# EAGLE library part IS42S1* (library MDB_HOME_kap)
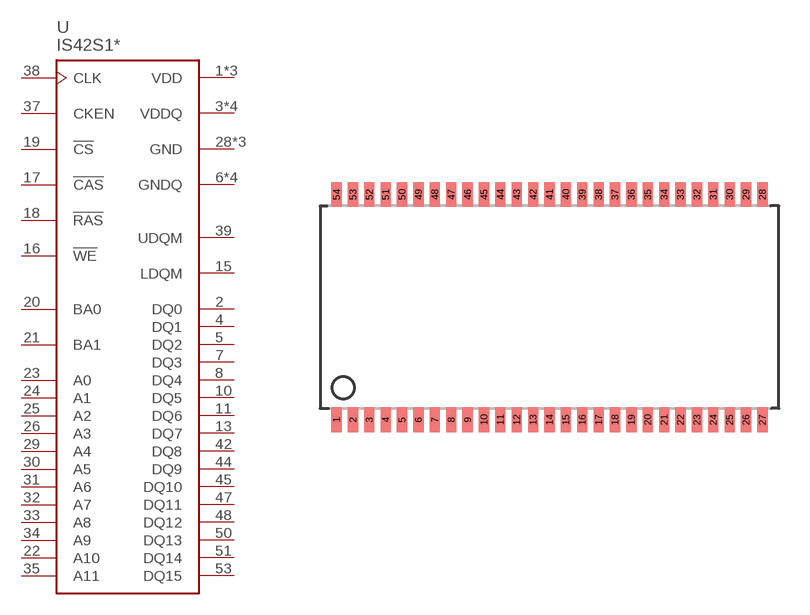
[diagram p26: symbol with the pads of TSOPII-54; footprint TSOPII-54]

Designator prefix U

## IS42S16400J  [TSOPII-54]
1  VDD  pwr
2  DQ0
3  VDDQ  pwr
4  DQ1
5  DQ2
6  GNDQ  pwr
7  DQ3
8  DQ4
9  VDDQ  pwr
10  DQ5
11  DQ6
12  GNDQ  pwr
13  DQ7
14  VDD  pwr
15  LDQM  in
16  !WE  in
17  !CAS  in
18  !RAS  in
19  !CS  in
20  BA0  in
21  BA1  in
22  A10
23  A0
24  A1
25  A2
26  A3
27  VDD  pwr
28  GND  pwr
29  A4
30  A5
31  A6
32  A7
33  A8
34  A9
35  A11
37  CKEN  in
38  CLK  in
39  UDQM  in
41  GND  pwr
42  DQ8
43  VDDQ  pwr
44  DQ9
45  DQ10
46  GNDQ  pwr
47  DQ11
48  DQ12
49  VDDQ  pwr
50  DQ13
51  DQ14
52  GNDQ  pwr
53  DQ15
54  GND  pwr

## Footprint TSOPII-54 (pad centres in mm)
54-pin TSOP II (51-85160) Source: CYPRESS cy7c1069av33_8.pdf
smd 0.5 x 1.2: 1 -10.4,-5.502; 2 -9.6,-5.502; 3 -8.8,-5.502; 4 -8,-5.502; 5 -7.2,-5.502; 6 -6.4,-5.502; 7 -5.6,-5.502; 8 -4.8,-5.502; 9 -4,-5.502; 10 -3.2,-5.502; 11 -2.4,-5.502; 12 -1.6,-5.502; 13 -0.8,-5.502; 14 0,-5.502; 15 0.8,-5.502; 16 1.6,-5.502; 17 2.4,-5.502; 18 3.2,-5.502; 19 4,-5.502; 20 4.8,-5.502; 21 5.6,-5.502; 22 6.4,-5.502; 23 7.2,-5.502; 24 8,-5.502; 25 8.8,-5.502; 26 9.6,-5.502; 27 10.4,-5.502; 28 10.4,5.502; 29 9.6,5.502; 30 8.8,5.502; 31 8,5.502; 32 7.2,5.502; 33 6.4,5.502; 34 5.6,5.502; 35 4.8,5.502; 36 4,5.502; 37 3.2,5.502; 38 2.4,5.502; 39 1.6,5.502; 40 0.8,5.502; 41 0,5.502; 42 -0.8,5.502; 43 -1.6,5.502; 44 -2.4,5.502; 45 -3.2,5.502; 46 -4,5.502; 47 -4.8,5.502; 48 -5.6,5.502; 49 -6.4,5.502; 50 -7.2,5.502; 51 -8,5.502; 52 -8.8,5.502; 53 -9.6,5.502; 54 -10.4,5.502